# Altium footprint library 757574160.PcbLib: 1 footprints
Each footprint in its own frame and in the unit in brackets; x right, y up, seen from the top. Pads: shape width x height; smd on the part's side, far side on the other; paste and mask are expansions set on the pad; w line width, h text height; cw(c..) or ccw(c..) is an arc to the next point about the centre after c.
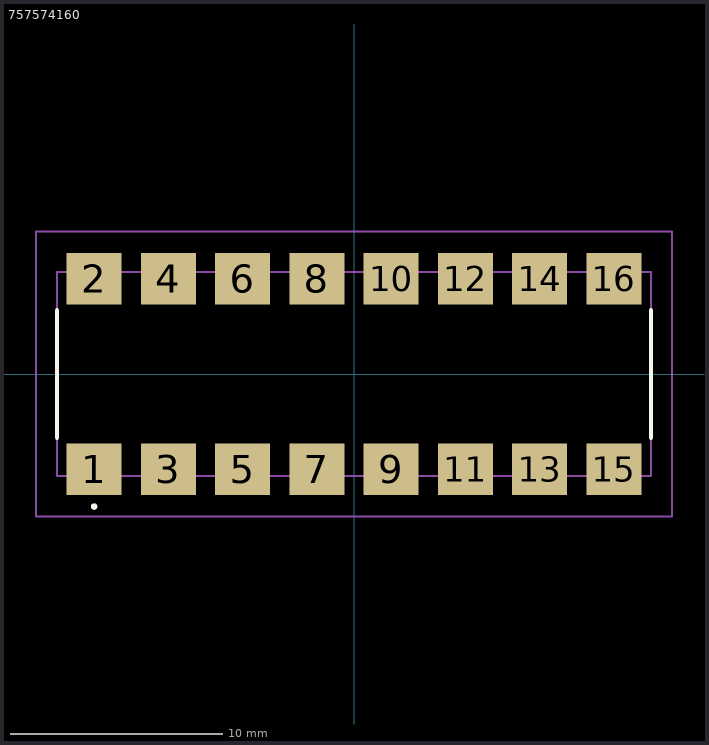
[diagram p0: the footprint, top view; thin cyan lines are the x and y axes]

## 757574160 [mm]
pads (16):
  rect 2.6x2.43 smd: 1(-12.25,-4.5) 2(-12.25,4.5) 3(-8.75,-4.5) 4(-8.75,4.5) 5(-5.25,-4.5) 6(-5.25,4.5) 7(-1.75,-4.5) 8(-1.75,4.5) 9(1.75,-4.5) 10(1.75,4.5) 11(5.25,-4.5) 12(5.25,4.5) 13(8.75,-4.5) 14(8.75,4.5) 15(12.25,-4.5) 16(12.25,4.5)
Top Overlay:
  lines w0.2: -14,-3 -14,3 ; 14,-3 14,3 ; -12.25,-6.3 -12.25,-6.3 ; -12.25,-6.3 ccw(c-12.25,-6.25) -12.25,-6.2 ; -12.25,-6.3 cw(c-12.25,-6.25) -12.25,-6.2 ; -12.25,-6.3 -12.25,-6.3 ; -12.25,-6.3 ccw(c-12.25,-6.25) -12.25,-6.2 ; -12.25,-6.2 -12.25,-6.2
Mechanical 15:
  lines w0.1: -14,-4.8 14,-4.8 14,4.8 -14,4.8 -14,-4.8
Mechanical 20:
  lines w0.1: -15,-6.715 15,-6.715 15,6.715 -15,6.715 -15,-6.715